# Altium integrated library Holtek Semiconductor 8-Bit OTP MCU.IntLib: 195 symbols (part 1 of 7)
Pins are listed as number, name and electrical type; pins without a type are passive.

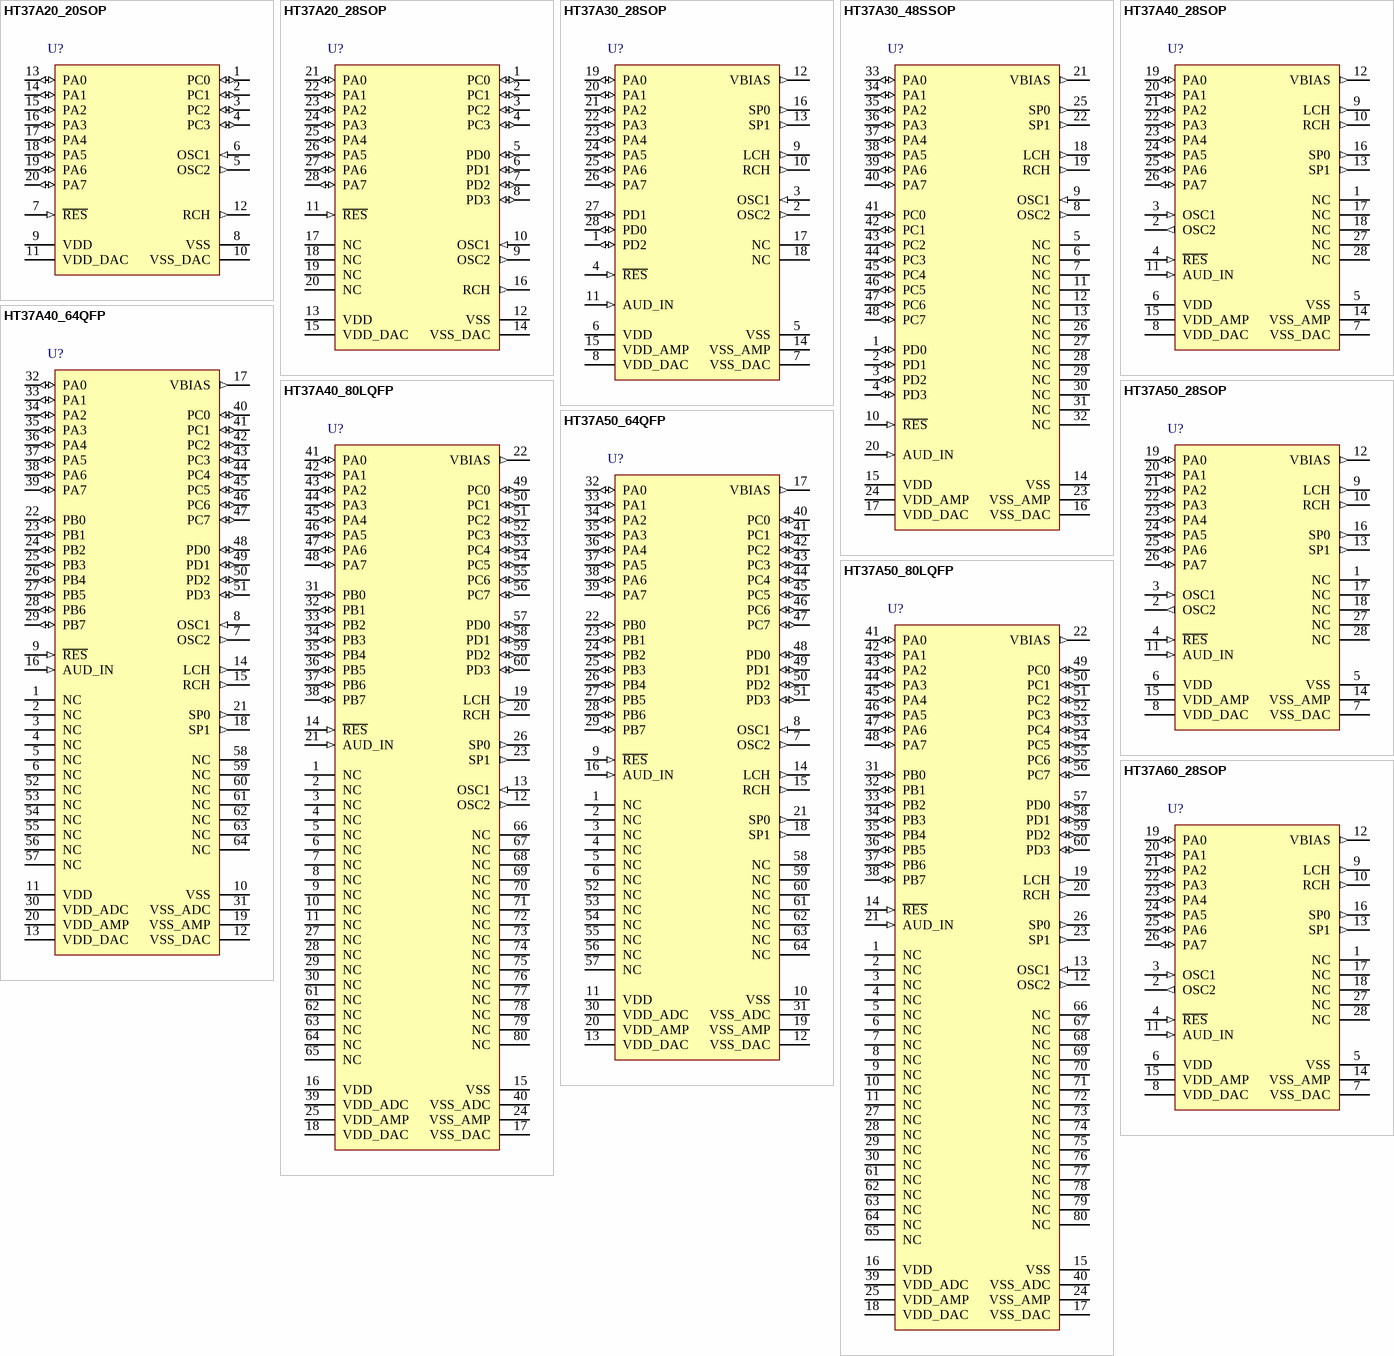
[diagram p0: symbols HT37A20_20SOP to HT37A60_28SOP]

## HT37A20_20SOP
designator U?
Voice & Music MCU, Enhanced Music MCU (8 Polyphony), 2.4V-5.5V, 32Kx16 Program Memory, 320x8 Data Memory, 16 I/O, 2 x 8-bit Timer, 1 x 16-bit Timer, 16-bitx1 D/A, 20-pin SOP; I/O: 16; DatasheetVersion: rev1.0, Feb-2009; PackageVersion: 25/05/2010; PackageReference: 20SOP; PackageDescription: 20-Pin Small Outline Package, 300mil Wide, 1.27 mm Pitch; Series: Enhanced Music MCU (8 Polyphony); Operating Voltage: 2.4V-5.5V; Program Memory: 32Kx16; Data Memory: 320x8; Code_JEDEC: MS-013; Code_IPC: SOIC127P1030-20; ComponentLink1Description: Manufacturer URL; ComponentLink1URL: http://www.holtek.com/; ComponentLink2Description: Datasheet; ComponentLink2URL: http://www.holtek.com/pdf/consumer/37axxv100.pdf; ComponentLink3Description: Package Specification; ComponentLink3URL: http://www.holtek.com/english/literature/package.pdf
footprint 20SOP_N (SOIC, 20-Leads, Body 12.8x7.1mm, Pitch 1.27mm, IPC Medium Density)
footprint 20SOP_L (SOIC, 20-Leads, Body 12.8x7.1mm, Pitch 1.27mm, IPC High Density)
footprint 20SOP_M (SOIC, 20-Leads, Body 12.8x7.1mm, Pitch 1.27mm, IPC Low Density)
pins: 1 PC0 (io), 2 PC1 (io), 3 PC2 (io), 4 PC3 (io), 5 OSC2 (out), 6 OSC1 (in), 7 ~{RES} (in), 8 VSS (power), 9 VDD (power), 10 VSS_DAC (power), 11 VDD_DAC (power), 12 RCH (out), 13 PA0 (io), 14 PA1 (io), 15 PA2 (io), 16 PA3 (io), 17 PA4 (io), 18 PA5 (io), 19 PA6 (io), 20 PA7 (io)

## HT37A20_28SOP
designator U?
Voice & Music MCU, Enhanced Music MCU (8 Polyphony), 2.4V-5.5V, 32Kx16 Program Memory, 320x8 Data Memory, 16 I/O, 2 x 8-bit Timer, 1 x 16-bit Timer, 16-bitx1 D/A, 28-pin SOP; I/O: 16; DatasheetVersion: rev1.0, Feb-2009; PackageVersion: 25/05/2010; PackageReference: 28SOP; PackageDescription: 28-Pin Small Outline Package, 300mil Wide, 1.27 mm Pitch; Series: Enhanced Music MCU (8 Polyphony); Operating Voltage: 2.4V-5.5V; Program Memory: 32Kx16; Data Memory: 320x8; Code_JEDEC: MS-013; ComponentLink1Description: Manufacturer URL; ComponentLink1URL: http://www.holtek.com/; ComponentLink2Description: Datasheet; ComponentLink2URL: http://www.holtek.com/pdf/consumer/37axxv100.pdf; ComponentLink3Description: Package Specification; ComponentLink3URL: http://www.holtek.com/english/literature/package.pdf
footprint 28SOP_N (SOIC, 28-Leads, Body 17.9x7.1mm, Pitch 1.27mm, IPC Medium Density)
footprint 28SOP_L (SOIC, 28-Leads, Body 17.9x7.1mm, Pitch 1.27mm, IPC High Density)
footprint 28SOP_M (SOIC, 28-Leads, Body 17.9x7.1mm, Pitch 1.27mm, IPC Low Density)
pins: 1 PC0 (io), 2 PC1 (io), 3 PC2 (io), 4 PC3 (io), 5 PD0 (io), 6 PD1 (io), 7 PD2 (io), 8 PD3 (io), 9 OSC2 (out), 10 OSC1 (in), 11 ~{RES} (in), 12 VSS (power), 13 VDD (power), 14 VSS_DAC (power), 15 VDD_DAC (power), 16 RCH (out), 17 NC, 18 NC, 19 NC, 20 NC, 21 PA0 (io), 22 PA1 (io), 23 PA2 (io), 24 PA3 (io), 25 PA4 (io), 26 PA5 (io), 27 PA6 (io), 28 PA7 (io)

## HT37A30_28SOP
designator U?
Voice & Music MCU, Enhanced Music MCU (8 Polyphony), 2.4V-5.5V, 64Kx16 Program Memory, 320x8 Data Memory, 20 I/O, 2 x 8-bit Timer, 1 x 16-bit Timer, 16-bitx2 D/A, 28-pin SOP; I/O: 20; DatasheetVersion: rev1.0, Feb-2009; PackageVersion: 25/05/2010; PackageReference: 28SOP; PackageDescription: 28-Pin Small Outline Package, 300mil Wide, 1.27 mm Pitch; Series: Enhanced Music MCU (8 Polyphony); Operating Voltage: 2.4V-5.5V; Program Memory: 64Kx16; Data Memory: 320x8; Code_JEDEC: MS-013; ComponentLink1Description: Manufacturer URL; ComponentLink1URL: http://www.holtek.com/; ComponentLink2Description: Datasheet; ComponentLink2URL: http://www.holtek.com/pdf/consumer/37axxv100.pdf; ComponentLink3Description: Package Specification; ComponentLink3URL: http://www.holtek.com/english/literature/package.pdf
footprint 28SOP_N (SOIC, 28-Leads, Body 17.9x7.1mm, Pitch 1.27mm, IPC Medium Density)
footprint 28SOP_L (SOIC, 28-Leads, Body 17.9x7.1mm, Pitch 1.27mm, IPC High Density)
footprint 28SOP_M (SOIC, 28-Leads, Body 17.9x7.1mm, Pitch 1.27mm, IPC Low Density)
pins: 1 PD2 (io), 2 OSC2 (out), 3 OSC1 (in), 4 ~{RES} (in), 5 VSS (power), 6 VDD (power), 7 VSS_DAC (power), 8 VDD_DAC (power), 9 LCH (out), 10 RCH (out), 11 AUD_IN (in), 12 VBIAS (out), 13 SP1 (out), 14 VSS_AMP (power), 15 VDD_AMP (power), 16 SP0 (out), 17 NC, 18 NC, 19 PA0 (io), 20 PA1 (io), 21 PA2 (io), 22 PA3 (io), 23 PA4 (io), 24 PA5 (io), 25 PA6 (io), 26 PA7 (io), 27 PD1 (io), 28 PD0 (io)

## HT37A30_48SSOP
designator U?
Voice & Music MCU, Enhanced Music MCU (8 Polyphony), 2.4V-5.5V, 64Kx16 Program Memory, 320x8 Data Memory, 20 I/O, 2 x 8-bit Timer, 1 x 16-bit Timer, 16-bitx2 D/A, 48-pin SSOP; I/O: 20; DatasheetVersion: rev1.0, Feb-2009; PackageVersion: 25/05/2010; PackageReference: 48SSOP; PackageDescription: 48-Pin Shrink Small Outline Package, 300mil Width, 0.64 mm Pitch; Series: Enhanced Music MCU (8 Polyphony); Operating Voltage: 2.4V-5.5V; Program Memory: 64Kx16; Data Memory: 320x8; Code_IPC: SOP635P1035-48; ComponentLink1Description: Manufacturer URL; ComponentLink1URL: http://www.holtek.com/; ComponentLink2Description: Datasheet; ComponentLink2URL: http://www.holtek.com/pdf/consumer/37axxv100.pdf; ComponentLink3Description: Package Specification; ComponentLink3URL: http://www.holtek.com/english/literature/package.pdf
footprint 48SSOP_N (SOP, 48-Leads, Body 15.9x7.5mm, Pitch 0.635mm, IPC Medium Density)
footprint 48SSOP_L (SOP, 48-Leads, Body 15.9x7.5mm, Pitch 0.635mm, IPC High Density)
footprint 48SSOP_M (SOP, 48-Leads, Body 15.9x7.5mm, Pitch 0.635mm, IPC Low Density)
pins: 1 PD0 (io), 2 PD1 (io), 3 PD2 (io), 4 PD3 (io), 5 NC, 6 NC, 7 NC, 8 OSC2 (out), 9 OSC1 (in), 10 ~{RES} (in), 11 NC, 12 NC, 13 NC, 14 VSS (power), 15 VDD (power), 16 VSS_DAC (power), 17 VDD_DAC (power), 18 LCH (out), 19 RCH (out), 20 AUD_IN (in), 21 VBIAS (out), 22 SP1 (out), 23 VSS_AMP (power), 24 VDD_AMP (power), 25 SP0 (out), 26 NC, 27 NC, 28 NC, 29 NC, 30 NC, 31 NC, 32 NC, 33 PA0 (io), 34 PA1 (io), 35 PA2 (io), 36 PA3 (io), 37 PA4 (io), 38 PA5 (io), 39 PA6 (io), 40 PA7 (io), 41 PC0 (io), 42 PC1 (io), 43 PC2 (io), 44 PC3 (io), 45 PC4 (io), 46 PC5 (io), 47 PC6 (io), 48 PC7 (io)

## HT37A40_28SOP
designator U?
Voice & Music MCU, Enhanced Music MCU (8 Polyphony), 2.4V-5.5V, 96Kx16 Program Memory, 320x8 Data Memory, 28 I/O, 2 x 8-bit Timer, 1 x 16-bit Timer, 16-bitx2 D/A, 28-pin SOP; I/O: 28; DatasheetVersion: rev1.0, Feb-2009; PackageVersion: 25/05/2010; PackageReference: 28SOP; PackageDescription: 28-Pin Small Outline Package, 300mil Wide, 1.27 mm Pitch; Series: Enhanced Music MCU (8 Polyphony); Operating Voltage: 2.4V-5.5V; Program Memory: 96Kx16; Data Memory: 320x8; Code_JEDEC: MS-013; ComponentLink1Description: Manufacturer URL; ComponentLink1URL: http://www.holtek.com/; ComponentLink2Description: Datasheet; ComponentLink2URL: http://www.holtek.com/pdf/consumer/37axxv100.pdf; ComponentLink3Description: Package Specification; ComponentLink3URL: http://www.holtek.com/english/literature/package.pdf
footprint 28SOP_N (SOIC, 28-Leads, Body 17.9x7.1mm, Pitch 1.27mm, IPC Medium Density)
footprint 28SOP_L (SOIC, 28-Leads, Body 17.9x7.1mm, Pitch 1.27mm, IPC High Density)
footprint 28SOP_M (SOIC, 28-Leads, Body 17.9x7.1mm, Pitch 1.27mm, IPC Low Density)
pins: 1 NC, 2 OSC2 (out), 3 OSC1 (in), 4 ~{RES} (in), 5 VSS (power), 6 VDD (power), 7 VSS_DAC (power), 8 VDD_DAC (power), 9 LCH (out), 10 RCH (out), 11 AUD_IN (in), 12 VBIAS (out), 13 SP1 (out), 14 VSS_AMP (power), 15 VDD_AMP (power), 16 SP0 (out), 17 NC, 18 NC, 19 PA0 (io), 20 PA1 (io), 21 PA2 (io), 22 PA3 (io), 23 PA4 (io), 24 PA5 (io), 25 PA6 (io), 26 PA7 (io), 27 NC, 28 NC

## HT37A40_64QFP
designator U?
Voice & Music MCU, Enhanced Music MCU (8 Polyphony), 2.4V-5.5V, 96Kx16 Program Memory, 320x8 Data Memory, 28 I/O, 2 x 8-bit Timer, 1 x 16-bit Timer, 16-bitx2 D/A, 64-pin QFP; I/O: 28; DatasheetVersion: rev1.0, Feb-2009; PackageVersion: 25/05/2010; PackageReference: 64QFP; PackageDescription: 64-Pin Quad Flat Pack, 20 x 14 mm Body, 1 mm Pitch; Series: Enhanced Music MCU (8 Polyphony); Operating Voltage: 2.4V-5.5V; Program Memory: 96Kx16; Data Memory: 320x8; ComponentLink1Description: Manufacturer URL; ComponentLink1URL: http://www.holtek.com/; ComponentLink2Description: Datasheet; ComponentLink2URL: http://www.holtek.com/pdf/consumer/37axxv100.pdf; ComponentLink3Description: Package Specification; ComponentLink3URL: http://www.holtek.com/english/literature/package.pdf
footprint 64QFP_N (QFP, 64-Leads, Body 20x14mm, Pitch 1mm, IPC Medium Density)
footprint 64QFP_L (QFP, 64-Leads, Body 20x14mm, Pitch 1mm, IPC High Density)
footprint 64QFP_M (QFP, 64-Leads, Body 20x14mm, Pitch 1mm, IPC Low Density)
pins: 1 NC, 2 NC, 3 NC, 4 NC, 5 NC, 6 NC, 7 OSC2 (out), 8 OSC1 (in), 9 ~{RES} (in), 10 VSS (power), 11 VDD (power), 12 VSS_DAC (power), 13 VDD_DAC (power), 14 LCH (out), 15 RCH (out), 16 AUD_IN (in), 17 VBIAS (out), 18 SP1 (out), 19 VSS_AMP (power), 20 VDD_AMP (power), 21 SP0 (out), 22 PB0 (io), 23 PB1 (io), 24 PB2 (io), 25 PB3 (io), 26 PB4 (io), 27 PB5 (io), 28 PB6 (io), 29 PB7 (io), 30 VDD_ADC (power), 31 VSS_ADC (power), 32 PA0 (io), 33 PA1 (io), 34 PA2 (io), 35 PA3 (io), 36 PA4 (io), 37 PA5 (io), 38 PA6 (io), 39 PA7 (io), 40 PC0 (io), 41 PC1 (io), 42 PC2 (io), 43 PC3 (io), 44 PC4 (io), 45 PC5 (io), 46 PC6 (io), 47 PC7 (io), 48 PD0 (io), 49 PD1 (io), 50 PD2 (io), 51 PD3 (io), 52 NC, 53 NC, 54 NC, 55 NC, 56 NC, 57 NC, 58 NC, 59 NC, 60 NC, 61 NC, 62 NC, 63 NC, 64 NC

## HT37A40_80LQFP
designator U?
Voice & Music MCU, Enhanced Music MCU (8 Polyphony), 2.4V-5.5V, 96Kx16 Program Memory, 320x8 Data Memory, 28 I/O, 2 x 8-bit Timer, 1 x 16-bit Timer, 16-bitx2 D/A, 80-pin LQFP; I/O: 28; DatasheetVersion: rev1.0, Feb-2009; PackageVersion: 25/05/2010; PackageReference: 80LQFP; PackageDescription: 80-Pin Low Profile Quad Flat Pack, 10 x 10 mm Body, 0.4 mm Pitch; Series: Enhanced Music MCU (8 Polyphony); Operating Voltage: 2.4V-5.5V; Program Memory: 96Kx16; Data Memory: 320x8; ComponentLink1Description: Manufacturer URL; ComponentLink1URL: http://www.holtek.com/; ComponentLink2Description: Datasheet; ComponentLink2URL: http://www.holtek.com/pdf/consumer/37axxv100.pdf; ComponentLink3Description: Package Specification; ComponentLink3URL: http://www.holtek.com/english/literature/package.pdf
footprint 80LQFP_N (Thin QFP, 80-Leads, Body 10x10mm, Pitch 0.4mm, IPC Medium Density)
footprint 80LQFP_L (Thin QFP, 80-Leads, Body 10x10mm, Pitch 0.4mm, IPC High Density)
footprint 80LQFP_M (Thin QFP, 80-Leads, Body 10x10mm, Pitch 0.4mm, IPC Low Density)
pins: 1 NC, 2 NC, 3 NC, 4 NC, 5 NC, 6 NC, 7 NC, 8 NC, 9 NC, 10 NC, 11 NC, 12 OSC2 (out), 13 OSC1 (in), 14 ~{RES} (in), 15 VSS (power), 16 VDD (power), 17 VSS_DAC (power), 18 VDD_DAC (power), 19 LCH (out), 20 RCH (out), 21 AUD_IN (in), 22 VBIAS (out), 23 SP1 (out), 24 VSS_AMP (power), 25 VDD_AMP (power), 26 SP0 (out), 27 NC, 28 NC, 29 NC, 30 NC, 31 PB0 (io), 32 PB1 (io), 33 PB2 (io), 34 PB3 (io), 35 PB4 (io), 36 PB5 (io), 37 PB6 (io), 38 PB7 (io), 39 VDD_ADC (power), 40 VSS_ADC (power), 41 PA0 (io), 42 PA1 (io), 43 PA2 (io), 44 PA3 (io), 45 PA4 (io), 46 PA5 (io), 47 PA6 (io), 48 PA7 (io), 49 PC0 (io), 50 PC1 (io), 51 PC2 (io), 52 PC3 (io), 53 PC4 (io), 54 PC5 (io), 55 PC6 (io), 56 PC7 (io), 57 PD0 (io), 58 PD1 (io), 59 PD2 (io), 60 PD3 (io), 61 NC, 62 NC, 63 NC, 64 NC, 65 NC, 66 NC, 67 NC, 68 NC, 69 NC, 70 NC, 71 NC, 72 NC, 73 NC, 74 NC, 75 NC, 76 NC, 77 NC, 78 NC, 79 NC, 80 NC

## HT37A50_28SOP
designator U?
Voice & Music MCU, Enhanced Music MCU (8 Polyphony), 2.4V-5.5V, 128Kx16 Program Memory, 320x8 Data Memory, 28 I/O, 2 x 8-bit Timer, 1 x 16-bit Timer, 16-bitx2 D/A, 28-pin SOP; I/O: 28; DatasheetVersion: rev1.0, Feb-2009; PackageVersion: 25/05/2010; PackageReference: 28SOP; PackageDescription: 28-Pin Small Outline Package, 300mil Wide, 1.27 mm Pitch; Series: Enhanced Music MCU (8 Polyphony); Operating Voltage: 2.4V-5.5V; Program Memory: 128Kx16; Data Memory: 320x8; Code_JEDEC: MS-013; ComponentLink1Description: Manufacturer URL; ComponentLink1URL: http://www.holtek.com/; ComponentLink2Description: Datasheet; ComponentLink2URL: http://www.holtek.com/pdf/consumer/37axxv100.pdf; ComponentLink3Description: Package Specification; ComponentLink3URL: http://www.holtek.com/english/literature/package.pdf
footprint 28SOP_N (SOIC, 28-Leads, Body 17.9x7.1mm, Pitch 1.27mm, IPC Medium Density)
footprint 28SOP_L (SOIC, 28-Leads, Body 17.9x7.1mm, Pitch 1.27mm, IPC High Density)
footprint 28SOP_M (SOIC, 28-Leads, Body 17.9x7.1mm, Pitch 1.27mm, IPC Low Density)
pins: 1 NC, 2 OSC2 (out), 3 OSC1 (in), 4 ~{RES} (in), 5 VSS (power), 6 VDD (power), 7 VSS_DAC (power), 8 VDD_DAC (power), 9 LCH (out), 10 RCH (out), 11 AUD_IN (in), 12 VBIAS (out), 13 SP1 (out), 14 VSS_AMP (power), 15 VDD_AMP (power), 16 SP0 (out), 17 NC, 18 NC, 19 PA0 (io), 20 PA1 (io), 21 PA2 (io), 22 PA3 (io), 23 PA4 (io), 24 PA5 (io), 25 PA6 (io), 26 PA7 (io), 27 NC, 28 NC

## HT37A50_64QFP
designator U?
Voice & Music MCU, Enhanced Music MCU (8 Polyphony), 2.4V-5.5V, 128Kx16 Program Memory, 320x8 Data Memory, 28 I/O, 2 x 8-bit Timer, 1 x 16-bit Timer, 16-bitx2 D/A, 64-pin QFP; I/O: 28; DatasheetVersion: rev1.0, Feb-2009; PackageVersion: 25/05/2010; PackageReference: 64QFP; PackageDescription: 64-Pin Quad Flat Pack, 20 x 14 mm Body, 1 mm Pitch; Series: Enhanced Music MCU (8 Polyphony); Operating Voltage: 2.4V-5.5V; Program Memory: 128Kx16; Data Memory: 320x8; ComponentLink1Description: Manufacturer URL; ComponentLink1URL: http://www.holtek.com/; ComponentLink2Description: Datasheet; ComponentLink2URL: http://www.holtek.com/pdf/consumer/37axxv100.pdf; ComponentLink3Description: Package Specification; ComponentLink3URL: http://www.holtek.com/english/literature/package.pdf
footprint 64QFP_N (QFP, 64-Leads, Body 20x14mm, Pitch 1mm, IPC Medium Density)
footprint 64QFP_L (QFP, 64-Leads, Body 20x14mm, Pitch 1mm, IPC High Density)
footprint 64QFP_M (QFP, 64-Leads, Body 20x14mm, Pitch 1mm, IPC Low Density)
pins: 1 NC, 2 NC, 3 NC, 4 NC, 5 NC, 6 NC, 7 OSC2 (out), 8 OSC1 (in), 9 ~{RES} (in), 10 VSS (power), 11 VDD (power), 12 VSS_DAC (power), 13 VDD_DAC (power), 14 LCH (out), 15 RCH (out), 16 AUD_IN (in), 17 VBIAS (out), 18 SP1 (out), 19 VSS_AMP (power), 20 VDD_AMP (power), 21 SP0 (out), 22 PB0 (io), 23 PB1 (io), 24 PB2 (io), 25 PB3 (io), 26 PB4 (io), 27 PB5 (io), 28 PB6 (io), 29 PB7 (io), 30 VDD_ADC (power), 31 VSS_ADC (power), 32 PA0 (io), 33 PA1 (io), 34 PA2 (io), 35 PA3 (io), 36 PA4 (io), 37 PA5 (io), 38 PA6 (io), 39 PA7 (io), 40 PC0 (io), 41 PC1 (io), 42 PC2 (io), 43 PC3 (io), 44 PC4 (io), 45 PC5 (io), 46 PC6 (io), 47 PC7 (io), 48 PD0 (io), 49 PD1 (io), 50 PD2 (io), 51 PD3 (io), 52 NC, 53 NC, 54 NC, 55 NC, 56 NC, 57 NC, 58 NC, 59 NC, 60 NC, 61 NC, 62 NC, 63 NC, 64 NC

## HT37A50_80LQFP
designator U?
Voice & Music MCU, Enhanced Music MCU (8 Polyphony), 2.4V-5.5V, 128Kx16 Program Memory, 320x8 Data Memory, 28 I/O, 2 x 8-bit Timer, 1 x 16-bit Timer, 16-bitx2 D/A, 80-pin LQFP; I/O: 28; DatasheetVersion: rev1.0, Feb-2009; PackageVersion: 25/05/2010; PackageReference: 80LQFP; PackageDescription: 80-Pin Low Profile Quad Flat Pack, 10 x 10 mm Body, 0.4 mm Pitch; Series: Enhanced Music MCU (8 Polyphony); Operating Voltage: 2.4V-5.5V; Program Memory: 128Kx16; Data Memory: 320x8; ComponentLink1Description: Manufacturer URL; ComponentLink1URL: http://www.holtek.com/; ComponentLink2Description: Datasheet; ComponentLink2URL: http://www.holtek.com/pdf/consumer/37axxv100.pdf; ComponentLink3Description: Package Specification; ComponentLink3URL: http://www.holtek.com/english/literature/package.pdf
footprint 80LQFP_N (Thin QFP, 80-Leads, Body 10x10mm, Pitch 0.4mm, IPC Medium Density)
footprint 80LQFP_L (Thin QFP, 80-Leads, Body 10x10mm, Pitch 0.4mm, IPC High Density)
footprint 80LQFP_M (Thin QFP, 80-Leads, Body 10x10mm, Pitch 0.4mm, IPC Low Density)
pins: 1 NC, 2 NC, 3 NC, 4 NC, 5 NC, 6 NC, 7 NC, 8 NC, 9 NC, 10 NC, 11 NC, 12 OSC2 (out), 13 OSC1 (in), 14 ~{RES} (in), 15 VSS (power), 16 VDD (power), 17 VSS_DAC (power), 18 VDD_DAC (power), 19 LCH (out), 20 RCH (out), 21 AUD_IN (in), 22 VBIAS (out), 23 SP1 (out), 24 VSS_AMP (power), 25 VDD_AMP (power), 26 SP0 (out), 27 NC, 28 NC, 29 NC, 30 NC, 31 PB0 (io), 32 PB1 (io), 33 PB2 (io), 34 PB3 (io), 35 PB4 (io), 36 PB5 (io), 37 PB6 (io), 38 PB7 (io), 39 VDD_ADC (power), 40 VSS_ADC (power), 41 PA0 (io), 42 PA1 (io), 43 PA2 (io), 44 PA3 (io), 45 PA4 (io), 46 PA5 (io), 47 PA6 (io), 48 PA7 (io), 49 PC0 (io), 50 PC1 (io), 51 PC2 (io), 52 PC3 (io), 53 PC4 (io), 54 PC5 (io), 55 PC6 (io), 56 PC7 (io), 57 PD0 (io), 58 PD1 (io), 59 PD2 (io), 60 PD3 (io), 61 NC, 62 NC, 63 NC, 64 NC, 65 NC, 66 NC, 67 NC, 68 NC, 69 NC, 70 NC, 71 NC, 72 NC, 73 NC, 74 NC, 75 NC, 76 NC, 77 NC, 78 NC, 79 NC, 80 NC

## HT37A60_28SOP
designator U?
Voice & Music MCU, Enhanced Music MCU (8 Polyphony), 2.4V-5.5V, 192Kx16 Program Memory, 320x8 Data Memory, 28 I/O, 2 x 8-bit Timer, 1 x 16-bit Timer, 16-bitx2 D/A, 28-pin SOP; I/O: 28; DatasheetVersion: rev1.0, Feb-2009; PackageVersion: 25/05/2010; PackageReference: 28SOP; PackageDescription: 28-Pin Small Outline Package, 300mil Wide, 1.27 mm Pitch; Series: Enhanced Music MCU (8 Polyphony); Operating Voltage: 2.4V-5.5V; Program Memory: 192Kx16; Data Memory: 320x8; Code_JEDEC: MS-013; ComponentLink1Description: Manufacturer URL; ComponentLink1URL: http://www.holtek.com/; ComponentLink2Description: Datasheet; ComponentLink2URL: http://www.holtek.com/pdf/consumer/37axxv100.pdf; ComponentLink3Description: Package Specification; ComponentLink3URL: http://www.holtek.com/english/literature/package.pdf
footprint 28SOP_N (SOIC, 28-Leads, Body 17.9x7.1mm, Pitch 1.27mm, IPC Medium Density)
footprint 28SOP_L (SOIC, 28-Leads, Body 17.9x7.1mm, Pitch 1.27mm, IPC High Density)
footprint 28SOP_M (SOIC, 28-Leads, Body 17.9x7.1mm, Pitch 1.27mm, IPC Low Density)
pins: 1 NC, 2 OSC2 (out), 3 OSC1 (in), 4 ~{RES} (in), 5 VSS (power), 6 VDD (power), 7 VSS_DAC (power), 8 VDD_DAC (power), 9 LCH (out), 10 RCH (out), 11 AUD_IN (in), 12 VBIAS (out), 13 SP1 (out), 14 VSS_AMP (power), 15 VDD_AMP (power), 16 SP0 (out), 17 NC, 18 NC, 19 PA0 (io), 20 PA1 (io), 21 PA2 (io), 22 PA3 (io), 23 PA4 (io), 24 PA5 (io), 25 PA6 (io), 26 PA7 (io), 27 NC, 28 NC

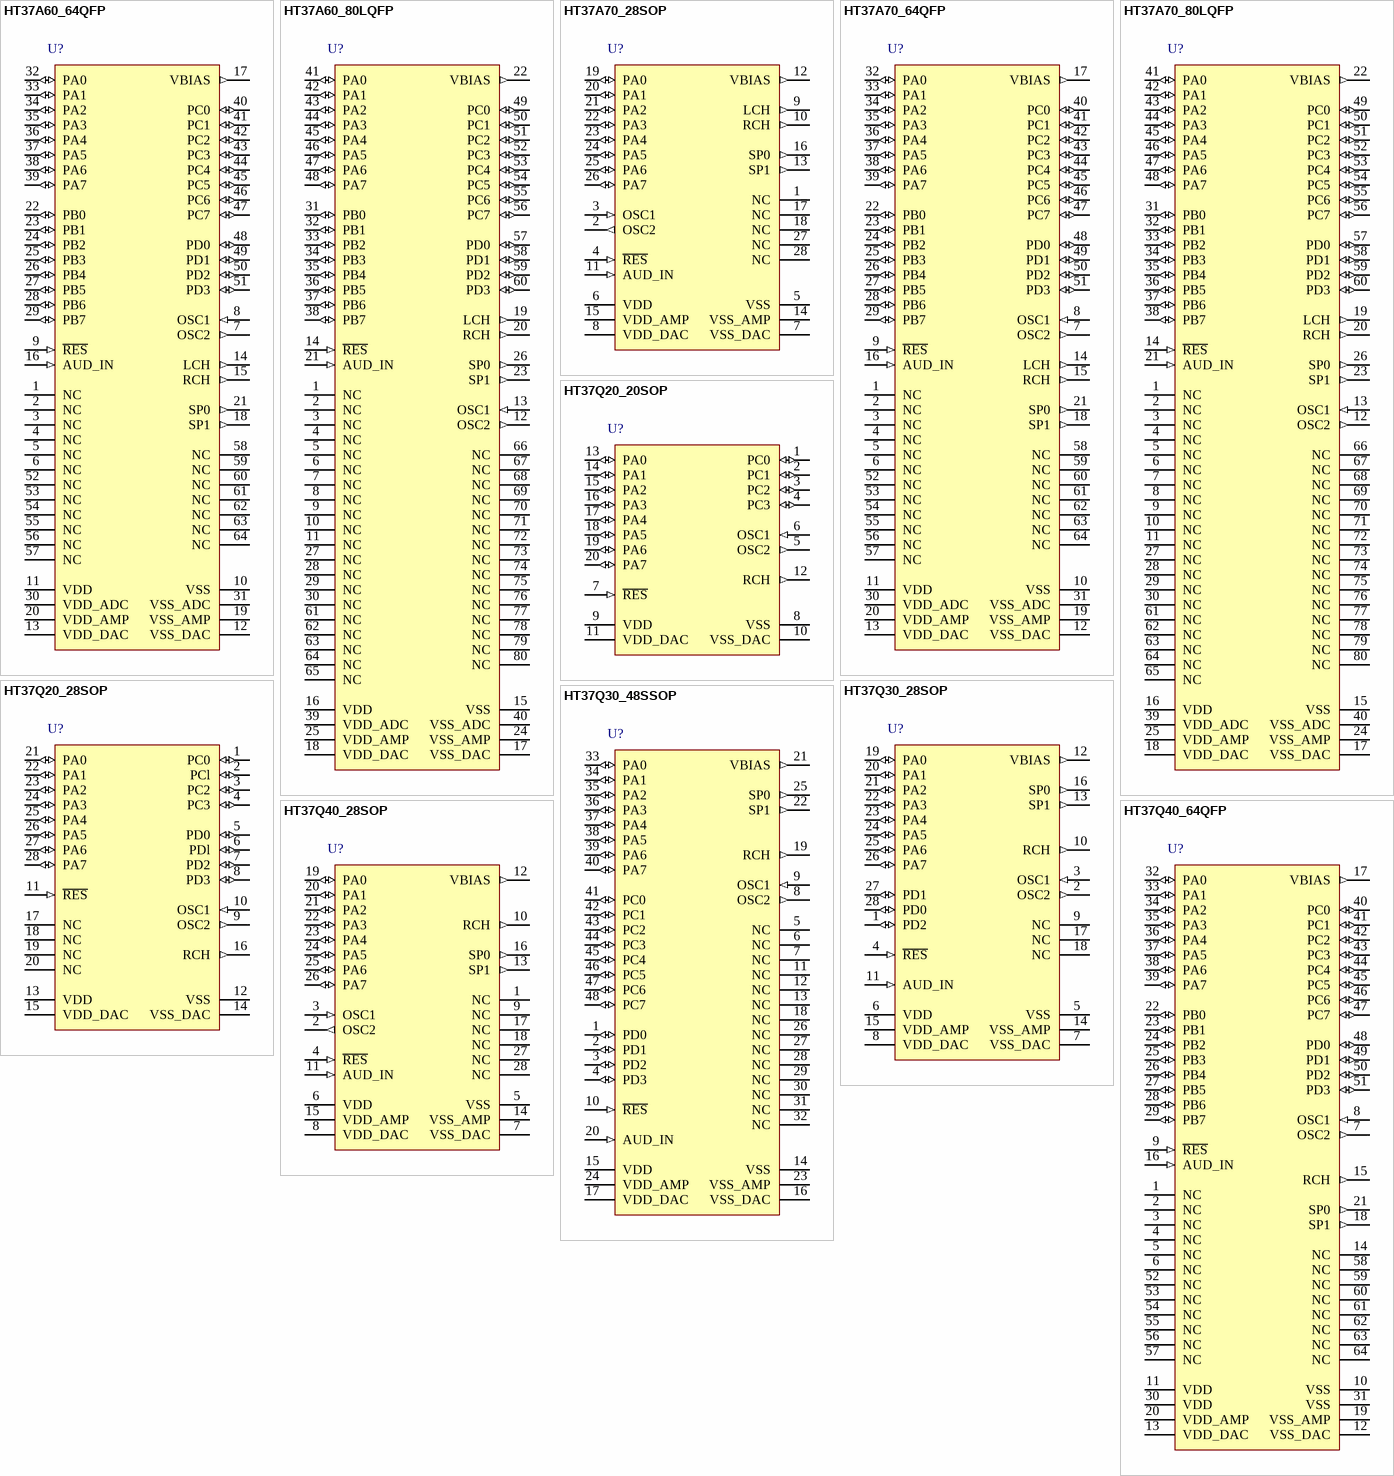
[diagram p1: symbols HT37A60_64QFP to HT37Q40_64QFP]

## HT37A60_64QFP
designator U?
Voice & Music MCU, Enhanced Music MCU (8 Polyphony), 2.4V-5.5V, 192Kx16 Program Memory, 320x8 Data Memory, 28 I/O, 2 x 8-bit Timer, 1 x 16-bit Timer, 16-bitx2 D/A, 64-pin QFP; I/O: 28; DatasheetVersion: rev1.0, Feb-2009; PackageVersion: 25/05/2010; PackageReference: 64QFP; PackageDescription: 64-Pin Quad Flat Pack, 20 x 14 mm Body, 1 mm Pitch; Series: Enhanced Music MCU (8 Polyphony); Operating Voltage: 2.4V-5.5V; Program Memory: 192Kx16; Data Memory: 320x8; ComponentLink1Description: Manufacturer URL; ComponentLink1URL: http://www.holtek.com/; ComponentLink2Description: Datasheet; ComponentLink2URL: http://www.holtek.com/pdf/consumer/37axxv100.pdf; ComponentLink3Description: Package Specification; ComponentLink3URL: http://www.holtek.com/english/literature/package.pdf
footprint 64QFP_N (QFP, 64-Leads, Body 20x14mm, Pitch 1mm, IPC Medium Density)
footprint 64QFP_L (QFP, 64-Leads, Body 20x14mm, Pitch 1mm, IPC High Density)
footprint 64QFP_M (QFP, 64-Leads, Body 20x14mm, Pitch 1mm, IPC Low Density)
pins: 1 NC, 2 NC, 3 NC, 4 NC, 5 NC, 6 NC, 7 OSC2 (out), 8 OSC1 (in), 9 ~{RES} (in), 10 VSS (power), 11 VDD (power), 12 VSS_DAC (power), 13 VDD_DAC (power), 14 LCH (out), 15 RCH (out), 16 AUD_IN (in), 17 VBIAS (out), 18 SP1 (out), 19 VSS_AMP (power), 20 VDD_AMP (power), 21 SP0 (out), 22 PB0 (io), 23 PB1 (io), 24 PB2 (io), 25 PB3 (io), 26 PB4 (io), 27 PB5 (io), 28 PB6 (io), 29 PB7 (io), 30 VDD_ADC (power), 31 VSS_ADC (power), 32 PA0 (io), 33 PA1 (io), 34 PA2 (io), 35 PA3 (io), 36 PA4 (io), 37 PA5 (io), 38 PA6 (io), 39 PA7 (io), 40 PC0 (io), 41 PC1 (io), 42 PC2 (io), 43 PC3 (io), 44 PC4 (io), 45 PC5 (io), 46 PC6 (io), 47 PC7 (io), 48 PD0 (io), 49 PD1 (io), 50 PD2 (io), 51 PD3 (io), 52 NC, 53 NC, 54 NC, 55 NC, 56 NC, 57 NC, 58 NC, 59 NC, 60 NC, 61 NC, 62 NC, 63 NC, 64 NC

## HT37A60_80LQFP
designator U?
Voice & Music MCU, Enhanced Music MCU (8 Polyphony), 2.4V-5.5V, 192Kx16 Program Memory, 320x8 Data Memory, 28 I/O, 2 x 8-bit Timer, 1 x 16-bit Timer, 16-bitx2 D/A, 80-pin LQFP; I/O: 28; DatasheetVersion: rev1.0, Feb-2009; PackageVersion: 25/05/2010; PackageReference: 80LQFP; PackageDescription: 80-Pin Low Profile Quad Flat Pack, 10 x 10 mm Body, 0.4 mm Pitch; Series: Enhanced Music MCU (8 Polyphony); Operating Voltage: 2.4V-5.5V; Program Memory: 192Kx16; Data Memory: 320x8; ComponentLink1Description: Manufacturer URL; ComponentLink1URL: http://www.holtek.com/; ComponentLink2Description: Datasheet; ComponentLink2URL: http://www.holtek.com/pdf/consumer/37axxv100.pdf; ComponentLink3Description: Package Specification; ComponentLink3URL: http://www.holtek.com/english/literature/package.pdf
footprint 80LQFP_N (Thin QFP, 80-Leads, Body 10x10mm, Pitch 0.4mm, IPC Medium Density)
footprint 80LQFP_L (Thin QFP, 80-Leads, Body 10x10mm, Pitch 0.4mm, IPC High Density)
footprint 80LQFP_M (Thin QFP, 80-Leads, Body 10x10mm, Pitch 0.4mm, IPC Low Density)
pins: 1 NC, 2 NC, 3 NC, 4 NC, 5 NC, 6 NC, 7 NC, 8 NC, 9 NC, 10 NC, 11 NC, 12 OSC2 (out), 13 OSC1 (in), 14 ~{RES} (in), 15 VSS (power), 16 VDD (power), 17 VSS_DAC (power), 18 VDD_DAC (power), 19 LCH (out), 20 RCH (out), 21 AUD_IN (in), 22 VBIAS (out), 23 SP1 (out), 24 VSS_AMP (power), 25 VDD_AMP (power), 26 SP0 (out), 27 NC, 28 NC, 29 NC, 30 NC, 31 PB0 (io), 32 PB1 (io), 33 PB2 (io), 34 PB3 (io), 35 PB4 (io), 36 PB5 (io), 37 PB6 (io), 38 PB7 (io), 39 VDD_ADC (power), 40 VSS_ADC (power), 41 PA0 (io), 42 PA1 (io), 43 PA2 (io), 44 PA3 (io), 45 PA4 (io), 46 PA5 (io), 47 PA6 (io), 48 PA7 (io), 49 PC0 (io), 50 PC1 (io), 51 PC2 (io), 52 PC3 (io), 53 PC4 (io), 54 PC5 (io), 55 PC6 (io), 56 PC7 (io), 57 PD0 (io), 58 PD1 (io), 59 PD2 (io), 60 PD3 (io), 61 NC, 62 NC, 63 NC, 64 NC, 65 NC, 66 NC, 67 NC, 68 NC, 69 NC, 70 NC, 71 NC, 72 NC, 73 NC, 74 NC, 75 NC, 76 NC, 77 NC, 78 NC, 79 NC, 80 NC

## HT37A70_28SOP
designator U?
Voice & Music MCU, Enhanced Music MCU (8 Polyphony), 2.4V-5.5V, 256Kx16 Program Memory, 320x8 Data Memory, 28 I/O, 2 x 8-bit Timer, 1 x 16-bit Timer, 16-bitx2 D/A, 28-pin SOP; I/O: 28; DatasheetVersion: rev1.0, Feb-2009; PackageVersion: 25/05/2010; PackageReference: 28SOP; PackageDescription: 28-Pin Small Outline Package, 300mil Wide, 1.27 mm Pitch; Series: Enhanced Music MCU (8 Polyphony); Operating Voltage: 2.4V-5.5V; Program Memory: 256Kx16; Data Memory: 320x8; Code_JEDEC: MS-013; ComponentLink1Description: Manufacturer URL; ComponentLink1URL: http://www.holtek.com/; ComponentLink2Description: Datasheet; ComponentLink2URL: http://www.holtek.com/pdf/consumer/37axxv100.pdf; ComponentLink3Description: Package Specification; ComponentLink3URL: http://www.holtek.com/english/literature/package.pdf
footprint 28SOP_N (SOIC, 28-Leads, Body 17.9x7.1mm, Pitch 1.27mm, IPC Medium Density)
footprint 28SOP_L (SOIC, 28-Leads, Body 17.9x7.1mm, Pitch 1.27mm, IPC High Density)
footprint 28SOP_M (SOIC, 28-Leads, Body 17.9x7.1mm, Pitch 1.27mm, IPC Low Density)
pins: 1 NC, 2 OSC2 (out), 3 OSC1 (in), 4 ~{RES} (in), 5 VSS (power), 6 VDD (power), 7 VSS_DAC (power), 8 VDD_DAC (power), 9 LCH (out), 10 RCH (out), 11 AUD_IN (in), 12 VBIAS (out), 13 SP1 (out), 14 VSS_AMP (power), 15 VDD_AMP (power), 16 SP0 (out), 17 NC, 18 NC, 19 PA0 (io), 20 PA1 (io), 21 PA2 (io), 22 PA3 (io), 23 PA4 (io), 24 PA5 (io), 25 PA6 (io), 26 PA7 (io), 27 NC, 28 NC

## HT37A70_64QFP
designator U?
Voice & Music MCU, Enhanced Music MCU (8 Polyphony), 2.4V-5.5V, 256Kx16 Program Memory, 320x8 Data Memory, 28 I/O, 2 x 8-bit Timer, 1 x 16-bit Timer, 16-bitx2 D/A, 64-pin QFP; I/O: 28; DatasheetVersion: rev1.0, Feb-2009; PackageVersion: 25/05/2010; PackageReference: 64QFP; PackageDescription: 64-Pin Quad Flat Pack, 20 x 14 mm Body, 1 mm Pitch; Series: Enhanced Music MCU (8 Polyphony); Operating Voltage: 2.4V-5.5V; Program Memory: 256Kx16; Data Memory: 320x8; ComponentLink1Description: Manufacturer URL; ComponentLink1URL: http://www.holtek.com/; ComponentLink2Description: Datasheet; ComponentLink2URL: http://www.holtek.com/pdf/consumer/37axxv100.pdf; ComponentLink3Description: Package Specification; ComponentLink3URL: http://www.holtek.com/english/literature/package.pdf
footprint 64QFP_N (QFP, 64-Leads, Body 20x14mm, Pitch 1mm, IPC Medium Density)
footprint 64QFP_L (QFP, 64-Leads, Body 20x14mm, Pitch 1mm, IPC High Density)
footprint 64QFP_M (QFP, 64-Leads, Body 20x14mm, Pitch 1mm, IPC Low Density)
pins: 1 NC, 2 NC, 3 NC, 4 NC, 5 NC, 6 NC, 7 OSC2 (out), 8 OSC1 (in), 9 ~{RES} (in), 10 VSS (power), 11 VDD (power), 12 VSS_DAC (power), 13 VDD_DAC (power), 14 LCH (out), 15 RCH (out), 16 AUD_IN (in), 17 VBIAS (out), 18 SP1 (out), 19 VSS_AMP (power), 20 VDD_AMP (power), 21 SP0 (out), 22 PB0 (io), 23 PB1 (io), 24 PB2 (io), 25 PB3 (io), 26 PB4 (io), 27 PB5 (io), 28 PB6 (io), 29 PB7 (io), 30 VDD_ADC (power), 31 VSS_ADC (power), 32 PA0 (io), 33 PA1 (io), 34 PA2 (io), 35 PA3 (io), 36 PA4 (io), 37 PA5 (io), 38 PA6 (io), 39 PA7 (io), 40 PC0 (io), 41 PC1 (io), 42 PC2 (io), 43 PC3 (io), 44 PC4 (io), 45 PC5 (io), 46 PC6 (io), 47 PC7 (io), 48 PD0 (io), 49 PD1 (io), 50 PD2 (io), 51 PD3 (io), 52 NC, 53 NC, 54 NC, 55 NC, 56 NC, 57 NC, 58 NC, 59 NC, 60 NC, 61 NC, 62 NC, 63 NC, 64 NC

## HT37A70_80LQFP
designator U?
Voice & Music MCU, Enhanced Music MCU (8 Polyphony), 2.4V-5.5V, 256Kx16 Program Memory, 320x8 Data Memory, 28 I/O, 2 x 8-bit Timer, 1 x 16-bit Timer, 16-bitx2 D/A, 80-pin LQFP; I/O: 28; DatasheetVersion: rev1.0, Feb-2009; PackageVersion: 25/05/2010; PackageReference: 80LQFP; PackageDescription: 80-Pin Low Profile Quad Flat Pack, 10 x 10 mm Body, 0.4 mm Pitch; Series: Enhanced Music MCU (8 Polyphony); Operating Voltage: 2.4V-5.5V; Program Memory: 256Kx16; Data Memory: 320x8; ComponentLink1Description: Manufacturer URL; ComponentLink1URL: http://www.holtek.com/; ComponentLink2Description: Datasheet; ComponentLink2URL: http://www.holtek.com/pdf/consumer/37axxv100.pdf; ComponentLink3Description: Package Specification; ComponentLink3URL: http://www.holtek.com/english/literature/package.pdf
footprint 80LQFP_N (Thin QFP, 80-Leads, Body 10x10mm, Pitch 0.4mm, IPC Medium Density)
footprint 80LQFP_L (Thin QFP, 80-Leads, Body 10x10mm, Pitch 0.4mm, IPC High Density)
footprint 80LQFP_M (Thin QFP, 80-Leads, Body 10x10mm, Pitch 0.4mm, IPC Low Density)
pins: 1 NC, 2 NC, 3 NC, 4 NC, 5 NC, 6 NC, 7 NC, 8 NC, 9 NC, 10 NC, 11 NC, 12 OSC2 (out), 13 OSC1 (in), 14 ~{RES} (in), 15 VSS (power), 16 VDD (power), 17 VSS_DAC (power), 18 VDD_DAC (power), 19 LCH (out), 20 RCH (out), 21 AUD_IN (in), 22 VBIAS (out), 23 SP1 (out), 24 VSS_AMP (power), 25 VDD_AMP (power), 26 SP0 (out), 27 NC, 28 NC, 29 NC, 30 NC, 31 PB0 (io), 32 PB1 (io), 33 PB2 (io), 34 PB3 (io), 35 PB4 (io), 36 PB5 (io), 37 PB6 (io), 38 PB7 (io), 39 VDD_ADC (power), 40 VSS_ADC (power), 41 PA0 (io), 42 PA1 (io), 43 PA2 (io), 44 PA3 (io), 45 PA4 (io), 46 PA5 (io), 47 PA6 (io), 48 PA7 (io), 49 PC0 (io), 50 PC1 (io), 51 PC2 (io), 52 PC3 (io), 53 PC4 (io), 54 PC5 (io), 55 PC6 (io), 56 PC7 (io), 57 PD0 (io), 58 PD1 (io), 59 PD2 (io), 60 PD3 (io), 61 NC, 62 NC, 63 NC, 64 NC, 65 NC, 66 NC, 67 NC, 68 NC, 69 NC, 70 NC, 71 NC, 72 NC, 73 NC, 74 NC, 75 NC, 76 NC, 77 NC, 78 NC, 79 NC, 80 NC

## HT37Q20_20SOP
designator U?
Voice & Music MCU, Enhanced Music MCU (4 Polyphony), 2.4V-5.5V, 2Kx15 Program Memory, 80x8 Data Memory, 12 I/O, 2 x 8-bit Timer, 1 x 16-bit Timer, 16-bitx1 D/A, 20-pin SOP; I/O: 12; DatasheetVersion: rev1.0, Feb-2009; PackageVersion: 25/05/2010; PackageReference: 20SOP; PackageDescription: 20-Pin Small Outline Package, 300mil Wide, 1.27 mm Pitch; Series: Enhanced Music MCU (4 Polyphony); Operating Voltage: 2.4V-5.5V; Program Memory: 2Kx15; Data Memory: 80x8; Code_JEDEC: MS-013; Code_IPC: SOIC127P1030-20; ComponentLink1Description: Manufacturer URL; ComponentLink1URL: http://www.holtek.com/; ComponentLink2Description: Datasheet; ComponentLink2URL: http://www.holtek.com.cn/pdf/consumer/37qxxv100.pdf; ComponentLink3Description: Package Specification; ComponentLink3URL: http://www.holtek.com/english/literature/package.pdf
footprint 20SOP_N (SOIC, 20-Leads, Body 12.8x7.1mm, Pitch 1.27mm, IPC Medium Density)
footprint 20SOP_L (SOIC, 20-Leads, Body 12.8x7.1mm, Pitch 1.27mm, IPC High Density)
footprint 20SOP_M (SOIC, 20-Leads, Body 12.8x7.1mm, Pitch 1.27mm, IPC Low Density)
pins: 1 PC0 (io), 2 PC1 (io), 3 PC2 (io), 4 PC3 (io), 5 OSC2 (out), 6 OSC1 (in), 7 ~{RES} (in), 8 VSS (power), 9 VDD (power), 10 VSS_DAC (power), 11 VDD_DAC (power), 12 RCH (out), 13 PA0 (io), 14 PA1 (io), 15 PA2 (io), 16 PA3 (io), 17 PA4 (io), 18 PA5 (io), 19 PA6 (io), 20 PA7 (io)

## HT37Q20_28SOP
designator U?
Voice & Music MCU, Enhanced Music MCU (4 Polyphony), 2.4V-5.5V, 2Kx15 Program Memory, 80x8 Data Memory, 12 I/O, 2 x 8-bit Timer, 1 x 16-bit Timer, 16-bitx1 D/A, 28-pin SOP; I/O: 12; DatasheetVersion: rev1.0, Feb-2009; PackageVersion: 25/05/2010; PackageReference: 28SOP; PackageDescription: 28-Pin Small Outline Package, 300mil Wide, 1.27 mm Pitch; Series: Enhanced Music MCU (4 Polyphony); Operating Voltage: 2.4V-5.5V; Program Memory: 2Kx15; Data Memory: 80x8; Code_JEDEC: MS-013; ComponentLink1Description: Manufacturer URL; ComponentLink1URL: http://www.holtek.com/; ComponentLink2Description: Datasheet; ComponentLink2URL: http://www.holtek.com.cn/pdf/consumer/37qxxv100.pdf; ComponentLink3Description: Package Specification; ComponentLink3URL: http://www.holtek.com/english/literature/package.pdf
footprint 28SOP_N (SOIC, 28-Leads, Body 17.9x7.1mm, Pitch 1.27mm, IPC Medium Density)
footprint 28SOP_L (SOIC, 28-Leads, Body 17.9x7.1mm, Pitch 1.27mm, IPC High Density)
footprint 28SOP_M (SOIC, 28-Leads, Body 17.9x7.1mm, Pitch 1.27mm, IPC Low Density)
pins: 1 PC0 (io), 2 PCl (io), 3 PC2 (io), 4 PC3 (io), 5 PD0 (io), 6 PDl (io), 7 PD2 (io), 8 PD3 (io), 9 OSC2 (out), 10 OSC1 (in), 11 ~{RES} (in), 12 VSS (power), 13 VDD (power), 14 VSS_DAC (power), 15 VDD_DAC (power), 16 RCH (out), 17 NC, 18 NC, 19 NC, 20 NC, 21 PA0 (io), 22 PA1 (io), 23 PA2 (io), 24 PA3 (io), 25 PA4 (io), 26 PA5 (io), 27 PA6 (io), 28 PA7 (io)

## HT37Q30_28SOP
designator U?
Voice & Music MCU, Enhanced Music MCU (4 Polyphony), 2.4V-5.5V, 2Kx15 Program Memory, 80x8 Data Memory, 12 I/O, 2 x 8-bit Timer, 1 x 16-bit Timer, 16-bitx1 D/A, 28-pin SOP; I/O: 12; DatasheetVersion: rev1.0, Feb-2009; PackageVersion: 25/05/2010; PackageReference: 28SOP; PackageDescription: 28-Pin Small Outline Package, 300mil Wide, 1.27 mm Pitch; Series: Enhanced Music MCU (4 Polyphony); Operating Voltage: 2.4V-5.5V; Program Memory: 2Kx15; Data Memory: 80x8; Code_JEDEC: MS-013; ComponentLink1Description: Manufacturer URL; ComponentLink1URL: http://www.holtek.com/; ComponentLink2Description: Datasheet; ComponentLink2URL: http://www.holtek.com.cn/pdf/consumer/37qxxv100.pdf; ComponentLink3Description: Package Specification; ComponentLink3URL: http://www.holtek.com/english/literature/package.pdf
footprint 28SOP_N (SOIC, 28-Leads, Body 17.9x7.1mm, Pitch 1.27mm, IPC Medium Density)
footprint 28SOP_L (SOIC, 28-Leads, Body 17.9x7.1mm, Pitch 1.27mm, IPC High Density)
footprint 28SOP_M (SOIC, 28-Leads, Body 17.9x7.1mm, Pitch 1.27mm, IPC Low Density)
pins: 1 PD2 (io), 2 OSC2 (out), 3 OSC1 (in), 4 ~{RES} (in), 5 VSS (power), 6 VDD (power), 7 VSS_DAC (power), 8 VDD_DAC (power), 9 NC, 10 RCH (out), 11 AUD_IN (in), 12 VBIAS (out), 13 SP1 (out), 14 VSS_AMP (power), 15 VDD_AMP (power), 16 SP0 (out), 17 NC, 18 NC, 19 PA0 (io), 20 PA1 (io), 21 PA2 (io), 22 PA3 (io), 23 PA4 (io), 24 PA5 (io), 25 PA6 (io), 26 PA7 (io), 27 PD1 (io), 28 PD0 (io)

## HT37Q30_48SSOP
designator U?
Voice & Music MCU, Enhanced Music MCU (4 Polyphony), 2.4V-5.5V, 2Kx15 Program Memory, 80x8 Data Memory, 12 I/O, 2 x 8-bit Timer, 1 x 16-bit Timer, 16-bitx1 D/A, 48-pin SSOP; I/O: 12; DatasheetVersion: rev1.0, Feb-2009; PackageVersion: 25/05/2010; PackageReference: 48SSOP; PackageDescription: 48-Pin Shrink Small Outline Package, 300mil Width, 0.64 mm Pitch; Series: Enhanced Music MCU (4 Polyphony); Operating Voltage: 2.4V-5.5V; Program Memory: 2Kx15; Data Memory: 80x8; Code_IPC: SOP635P1035-48; ComponentLink1Description: Manufacturer URL; ComponentLink1URL: http://www.holtek.com/; ComponentLink2Description: Datasheet; ComponentLink2URL: http://www.holtek.com.cn/pdf/consumer/37qxxv100.pdf; ComponentLink3Description: Package Specification; ComponentLink3URL: http://www.holtek.com/english/literature/package.pdf
footprint 48SSOP_N (SOP, 48-Leads, Body 15.9x7.5mm, Pitch 0.635mm, IPC Medium Density)
footprint 48SSOP_L (SOP, 48-Leads, Body 15.9x7.5mm, Pitch 0.635mm, IPC High Density)
footprint 48SSOP_M (SOP, 48-Leads, Body 15.9x7.5mm, Pitch 0.635mm, IPC Low Density)
pins: 1 PD0 (io), 2 PD1 (io), 3 PD2 (io), 4 PD3 (io), 5 NC, 6 NC, 7 NC, 8 OSC2 (out), 9 OSC1 (in), 10 ~{RES} (in), 11 NC, 12 NC, 13 NC, 14 VSS (power), 15 VDD (power), 16 VSS_DAC (power), 17 VDD_DAC (power), 18 NC, 19 RCH (out), 20 AUD_IN (in), 21 VBIAS (out), 22 SP1 (out), 23 VSS_AMP (power), 24 VDD_AMP (power), 25 SP0 (out), 26 NC, 27 NC, 28 NC, 29 NC, 30 NC, 31 NC, 32 NC, 33 PA0 (io), 34 PA1 (io), 35 PA2 (io), 36 PA3 (io), 37 PA4 (io), 38 PA5 (io), 39 PA6 (io), 40 PA7 (io), 41 PC0 (io), 42 PC1 (io), 43 PC2 (io), 44 PC3 (io), 45 PC4 (io), 46 PC5 (io), 47 PC6 (io), 48 PC7 (io)

## HT37Q40_28SOP
designator U?
Voice & Music MCU, Enhanced Music MCU (4 Polyphony), 2.4V-5.5V, 2Kx15 Program Memory, 80x8 Data Memory, 12 I/O, 2 x 8-bit Timer, 1 x 16-bit Timer, 16-bitx1 D/A, 28-pin SOP; I/O: 12; DatasheetVersion: rev1.0, Feb-2009; PackageVersion: 25/05/2010; PackageReference: 28SOP; PackageDescription: 28-Pin Small Outline Package, 300mil Wide, 1.27 mm Pitch; Series: Enhanced Music MCU (4 Polyphony); Operating Voltage: 2.4V-5.5V; Program Memory: 2Kx15; Data Memory: 80x8; Code_JEDEC: MS-013; ComponentLink1Description: Manufacturer URL; ComponentLink1URL: http://www.holtek.com/; ComponentLink2Description: Datasheet; ComponentLink2URL: http://www.holtek.com.cn/pdf/consumer/37qxxv100.pdf; ComponentLink3Description: Package Specification; ComponentLink3URL: http://www.holtek.com/english/literature/package.pdf
footprint 28SOP_N (SOIC, 28-Leads, Body 17.9x7.1mm, Pitch 1.27mm, IPC Medium Density)
footprint 28SOP_L (SOIC, 28-Leads, Body 17.9x7.1mm, Pitch 1.27mm, IPC High Density)
footprint 28SOP_M (SOIC, 28-Leads, Body 17.9x7.1mm, Pitch 1.27mm, IPC Low Density)
pins: 1 NC, 2 OSC2 (out), 3 OSC1 (in), 4 ~{RES} (in), 5 VSS (power), 6 VDD (power), 7 VSS_DAC (power), 8 VDD_DAC (power), 9 NC, 10 RCH (out), 11 AUD_IN (in), 12 VBIAS (out), 13 SP1 (out), 14 VSS_AMP (power), 15 VDD_AMP (power), 16 SP0 (out), 17 NC, 18 NC, 19 PA0 (io), 20 PA1 (io), 21 PA2 (io), 22 PA3 (io), 23 PA4 (io), 24 PA5 (io), 25 PA6 (io), 26 PA7 (io), 27 NC, 28 NC

## HT37Q40_64QFP
designator U?
Voice & Music MCU, Enhanced Music MCU (4 Polyphony), 2.4V-5.5V, 2Kx15 Program Memory, 80x8 Data Memory, 12 I/O, 2 x 8-bit Timer, 1 x 16-bit Timer, 16-bitx1 D/A, 64-pin QFP; I/O: 12; DatasheetVersion: rev1.0, Feb-2009; PackageVersion: 25/05/2010; PackageReference: 64QFP; PackageDescription: 64-Pin Quad Flat Pack, 20 x 14 mm Body, 1 mm Pitch; Series: Enhanced Music MCU (4 Polyphony); Operating Voltage: 2.4V-5.5V; Program Memory: 2Kx15; Data Memory: 80x8; ComponentLink1Description: Manufacturer URL; ComponentLink1URL: http://www.holtek.com/; ComponentLink2Description: Datasheet; ComponentLink2URL: http://www.holtek.com.cn/pdf/consumer/37qxxv100.pdf; ComponentLink3Description: Package Specification; ComponentLink3URL: http://www.holtek.com/english/literature/package.pdf
footprint 64QFP_N (QFP, 64-Leads, Body 20x14mm, Pitch 1mm, IPC Medium Density)
footprint 64QFP_L (QFP, 64-Leads, Body 20x14mm, Pitch 1mm, IPC High Density)
footprint 64QFP_M (QFP, 64-Leads, Body 20x14mm, Pitch 1mm, IPC Low Density)
pins: 1 NC, 2 NC, 3 NC, 4 NC, 5 NC, 6 NC, 7 OSC2 (out), 8 OSC1 (in), 9 ~{RES} (in), 10 VSS (power), 11 VDD (power), 12 VSS_DAC (power), 13 VDD_DAC (power), 14 NC, 15 RCH (out), 16 AUD_IN (in), 17 VBIAS (out), 18 SP1 (out), 19 VSS_AMP (power), 20 VDD_AMP (power), 21 SP0 (out), 22 PB0 (io), 23 PB1 (io), 24 PB2 (io), 25 PB3 (io), 26 PB4 (io), 27 PB5 (io), 28 PB6 (io), 29 PB7 (io), 30 VDD (power), 31 VSS (power), 32 PA0 (io), 33 PA1 (io), 34 PA2 (io), 35 PA3 (io), 36 PA4 (io), 37 PA5 (io), 38 PA6 (io), 39 PA7 (io), 40 PC0 (io), 41 PC1 (io), 42 PC2 (io), 43 PC3 (io), 44 PC4 (io), 45 PC5 (io), 46 PC6 (io), 47 PC7 (io), 48 PD0 (io), 49 PD1 (io), 50 PD2 (io), 51 PD3 (io), 52 NC, 53 NC, 54 NC, 55 NC, 56 NC, 57 NC, 58 NC, 59 NC, 60 NC, 61 NC, 62 NC, 63 NC, 64 NC

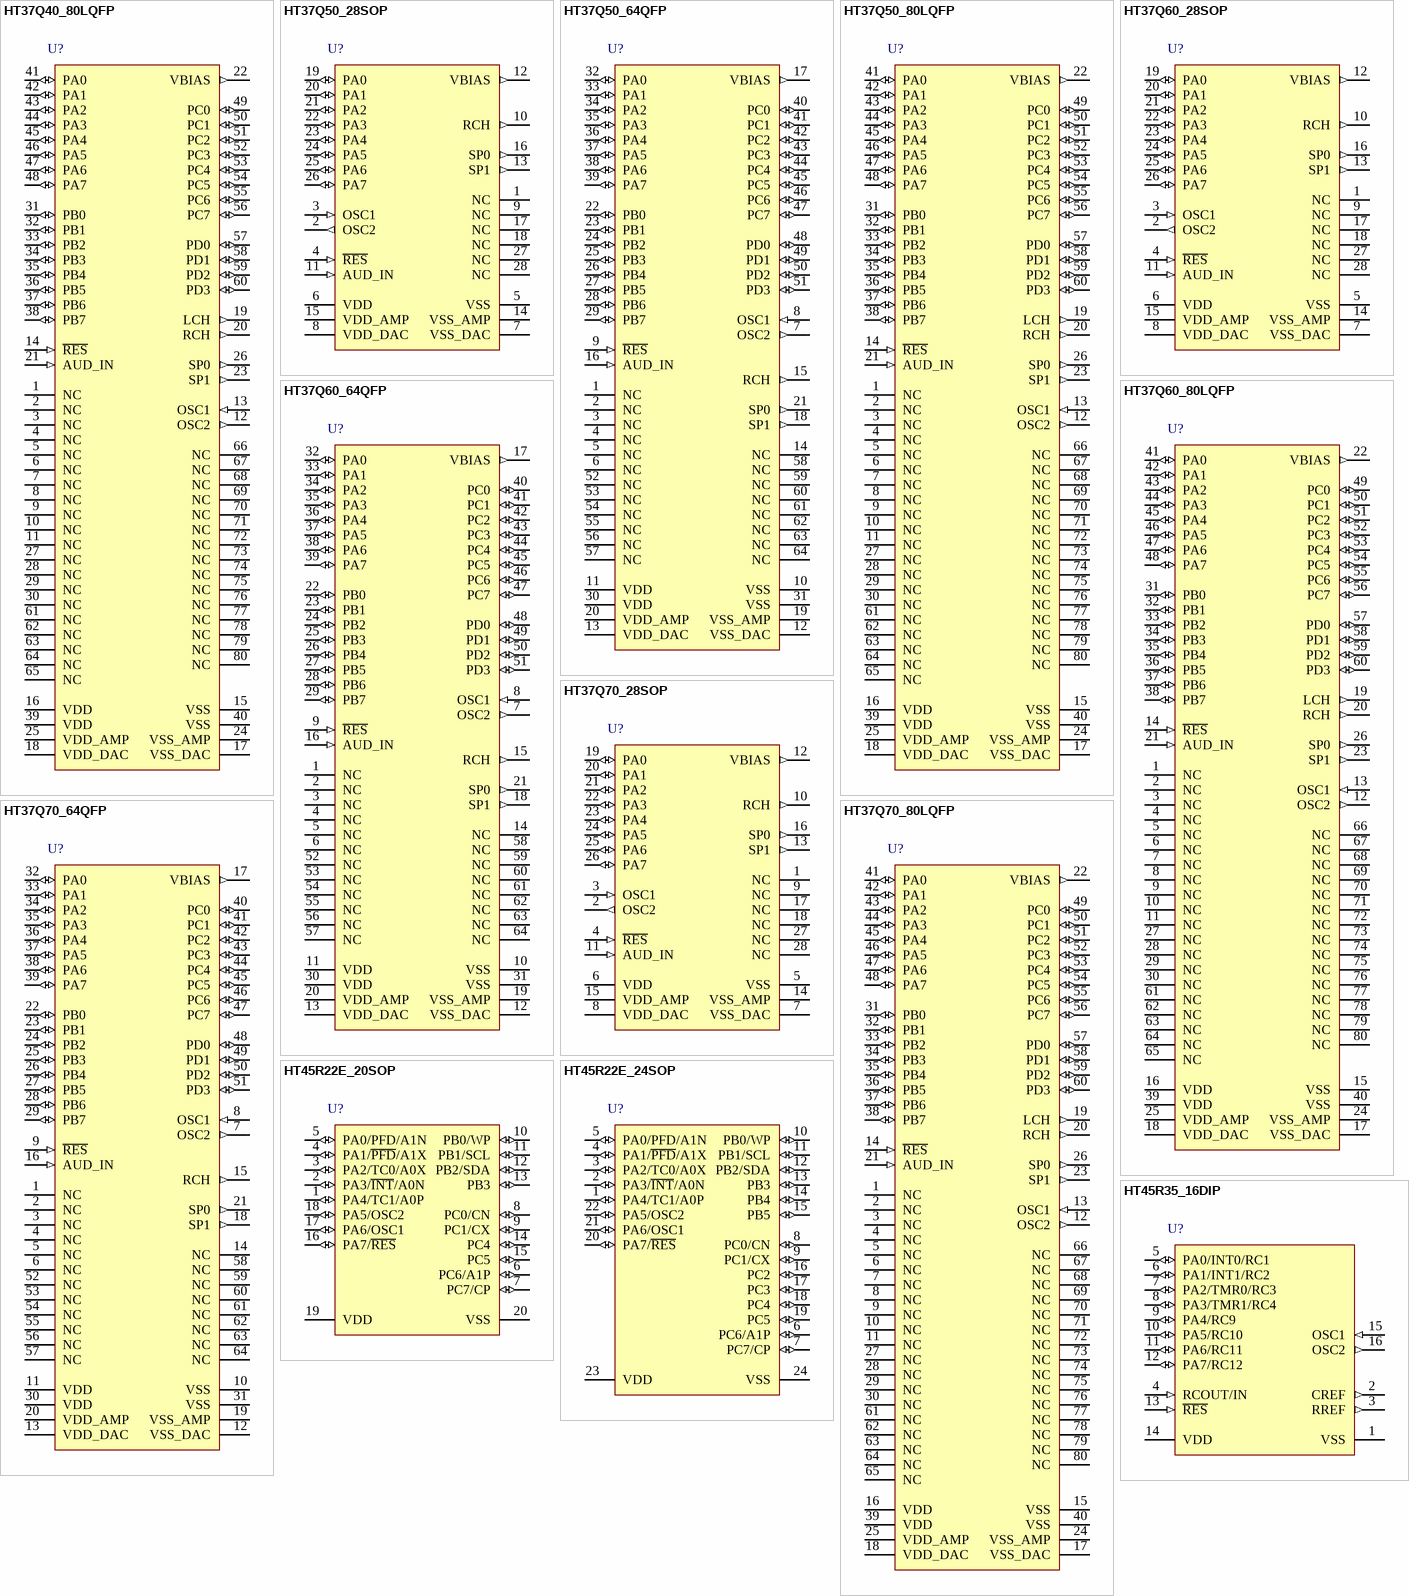
[diagram p2: symbols HT37Q40_80LQFP to HT45R35_16DIP]

## HT37Q40_80LQFP
designator U?
Voice & Music MCU, Enhanced Music MCU (4 Polyphony), 2.4V-5.5V, 2Kx15 Program Memory, 80x8 Data Memory, 12 I/O, 2 x 8-bit Timer, 1 x 16-bit Timer, 16-bitx1 D/A, 80-pin LQFP; I/O: 12; DatasheetVersion: rev1.0, Feb-2009; PackageVersion: 25/05/2010; PackageReference: 80LQFP; PackageDescription: 80-Pin Low Profile Quad Flat Pack, 10 x 10 mm Body, 0.4 mm Pitch; Series: Enhanced Music MCU (4 Polyphony); Operating Voltage: 2.4V-5.5V; Program Memory: 2Kx15; Data Memory: 80x8; ComponentLink1Description: Manufacturer URL; ComponentLink1URL: http://www.holtek.com/; ComponentLink2Description: Datasheet; ComponentLink2URL: http://www.holtek.com.cn/pdf/consumer/37qxxv100.pdf; ComponentLink3Description: Package Specification; ComponentLink3URL: http://www.holtek.com/english/literature/package.pdf
footprint 80LQFP_N (Thin QFP, 80-Leads, Body 10x10mm, Pitch 0.4mm, IPC Medium Density)
footprint 80LQFP_L (Thin QFP, 80-Leads, Body 10x10mm, Pitch 0.4mm, IPC High Density)
footprint 80LQFP_M (Thin QFP, 80-Leads, Body 10x10mm, Pitch 0.4mm, IPC Low Density)
pins: 1 NC, 2 NC, 3 NC, 4 NC, 5 NC, 6 NC, 7 NC, 8 NC, 9 NC, 10 NC, 11 NC, 12 OSC2 (out), 13 OSC1 (in), 14 ~{RES} (in), 15 VSS (power), 16 VDD (power), 17 VSS_DAC (power), 18 VDD_DAC (power), 19 LCH (out), 20 RCH (out), 21 AUD_IN (in), 22 VBIAS (out), 23 SP1 (out), 24 VSS_AMP (power), 25 VDD_AMP (power), 26 SP0 (out), 27 NC, 28 NC, 29 NC, 30 NC, 31 PB0 (io), 32 PB1 (io), 33 PB2 (io), 34 PB3 (io), 35 PB4 (io), 36 PB5 (io), 37 PB6 (io), 38 PB7 (io), 39 VDD (power), 40 VSS (power), 41 PA0 (io), 42 PA1 (io), 43 PA2 (io), 44 PA3 (io), 45 PA4 (io), 46 PA5 (io), 47 PA6 (io), 48 PA7 (io), 49 PC0 (io), 50 PC1 (io), 51 PC2 (io), 52 PC3 (io), 53 PC4 (io), 54 PC5 (io), 55 PC6 (io), 56 PC7 (io), 57 PD0 (io), 58 PD1 (io), 59 PD2 (io), 60 PD3 (io), 61 NC, 62 NC, 63 NC, 64 NC, 65 NC, 66 NC, 67 NC, 68 NC, 69 NC, 70 NC, 71 NC, 72 NC, 73 NC, 74 NC, 75 NC, 76 NC, 77 NC, 78 NC, 79 NC, 80 NC

## HT37Q50_28SOP
designator U?
Voice & Music MCU, Enhanced Music MCU (4 Polyphony), 2.4V-5.5V, 2Kx15 Program Memory, 80x8 Data Memory, 12 I/O, 2 x 8-bit Timer, 1 x 16-bit Timer, 16-bitx1 D/A, 28-pin SOP; I/O: 12; DatasheetVersion: rev1.0, Feb-2009; PackageVersion: 25/05/2010; PackageReference: 28SOP; PackageDescription: 28-Pin Small Outline Package, 300mil Wide, 1.27 mm Pitch; Series: Enhanced Music MCU (4 Polyphony); Operating Voltage: 2.4V-5.5V; Program Memory: 2Kx15; Data Memory: 80x8; Code_JEDEC: MS-013; ComponentLink1Description: Manufacturer URL; ComponentLink1URL: http://www.holtek.com/; ComponentLink2Description: Datasheet; ComponentLink2URL: http://www.holtek.com.cn/pdf/consumer/37qxxv100.pdf; ComponentLink3Description: Package Specification; ComponentLink3URL: http://www.holtek.com/english/literature/package.pdf
footprint 28SOP_N (SOIC, 28-Leads, Body 17.9x7.1mm, Pitch 1.27mm, IPC Medium Density)
footprint 28SOP_L (SOIC, 28-Leads, Body 17.9x7.1mm, Pitch 1.27mm, IPC High Density)
footprint 28SOP_M (SOIC, 28-Leads, Body 17.9x7.1mm, Pitch 1.27mm, IPC Low Density)
pins: 1 NC, 2 OSC2 (out), 3 OSC1 (in), 4 ~{RES} (in), 5 VSS (power), 6 VDD (power), 7 VSS_DAC (power), 8 VDD_DAC (power), 9 NC, 10 RCH (out), 11 AUD_IN (in), 12 VBIAS (out), 13 SP1 (out), 14 VSS_AMP (power), 15 VDD_AMP (power), 16 SP0 (out), 17 NC, 18 NC, 19 PA0 (io), 20 PA1 (io), 21 PA2 (io), 22 PA3 (io), 23 PA4 (io), 24 PA5 (io), 25 PA6 (io), 26 PA7 (io), 27 NC, 28 NC

## HT37Q50_64QFP
designator U?
Voice & Music MCU, Enhanced Music MCU (4 Polyphony), 2.4V-5.5V, 2Kx15 Program Memory, 80x8 Data Memory, 12 I/O, 2 x 8-bit Timer, 1 x 16-bit Timer, 16-bitx1 D/A, 64-pin QFP; I/O: 12; DatasheetVersion: rev1.0, Feb-2009; PackageVersion: 25/05/2010; PackageReference: 64QFP; PackageDescription: 64-Pin Quad Flat Pack, 20 x 14 mm Body, 1 mm Pitch; Series: Enhanced Music MCU (4 Polyphony); Operating Voltage: 2.4V-5.5V; Program Memory: 2Kx15; Data Memory: 80x8; ComponentLink1Description: Manufacturer URL; ComponentLink1URL: http://www.holtek.com/; ComponentLink2Description: Datasheet; ComponentLink2URL: http://www.holtek.com.cn/pdf/consumer/37qxxv100.pdf; ComponentLink3Description: Package Specification; ComponentLink3URL: http://www.holtek.com/english/literature/package.pdf
footprint 64QFP_N (QFP, 64-Leads, Body 20x14mm, Pitch 1mm, IPC Medium Density)
footprint 64QFP_L (QFP, 64-Leads, Body 20x14mm, Pitch 1mm, IPC High Density)
footprint 64QFP_M (QFP, 64-Leads, Body 20x14mm, Pitch 1mm, IPC Low Density)
pins: 1 NC, 2 NC, 3 NC, 4 NC, 5 NC, 6 NC, 7 OSC2 (out), 8 OSC1 (in), 9 ~{RES} (in), 10 VSS (power), 11 VDD (power), 12 VSS_DAC (power), 13 VDD_DAC (power), 14 NC, 15 RCH (out), 16 AUD_IN (in), 17 VBIAS (out), 18 SP1 (out), 19 VSS_AMP (power), 20 VDD_AMP (power), 21 SP0 (out), 22 PB0 (io), 23 PB1 (io), 24 PB2 (io), 25 PB3 (io), 26 PB4 (io), 27 PB5 (io), 28 PB6 (io), 29 PB7 (io), 30 VDD (power), 31 VSS (power), 32 PA0 (io), 33 PA1 (io), 34 PA2 (io), 35 PA3 (io), 36 PA4 (io), 37 PA5 (io), 38 PA6 (io), 39 PA7 (io), 40 PC0 (io), 41 PC1 (io), 42 PC2 (io), 43 PC3 (io), 44 PC4 (io), 45 PC5 (io), 46 PC6 (io), 47 PC7 (io), 48 PD0 (io), 49 PD1 (io), 50 PD2 (io), 51 PD3 (io), 52 NC, 53 NC, 54 NC, 55 NC, 56 NC, 57 NC, 58 NC, 59 NC, 60 NC, 61 NC, 62 NC, 63 NC, 64 NC

## HT37Q50_80LQFP
designator U?
Voice & Music MCU, Enhanced Music MCU (4 Polyphony), 2.4V-5.5V, 2Kx15 Program Memory, 80x8 Data Memory, 12 I/O, 2 x 8-bit Timer, 1 x 16-bit Timer, 16-bitx1 D/A, 80-pin LQFP; I/O: 12; DatasheetVersion: rev1.0, Feb-2009; PackageVersion: 25/05/2010; PackageReference: 80LQFP; PackageDescription: 80-Pin Low Profile Quad Flat Pack, 10 x 10 mm Body, 0.4 mm Pitch; Series: Enhanced Music MCU (4 Polyphony); Operating Voltage: 2.4V-5.5V; Program Memory: 2Kx15; Data Memory: 80x8; ComponentLink1Description: Manufacturer URL; ComponentLink1URL: http://www.holtek.com/; ComponentLink2Description: Datasheet; ComponentLink2URL: http://www.holtek.com.cn/pdf/consumer/37qxxv100.pdf; ComponentLink3Description: Package Specification; ComponentLink3URL: http://www.holtek.com/english/literature/package.pdf
footprint 80LQFP_N (Thin QFP, 80-Leads, Body 10x10mm, Pitch 0.4mm, IPC Medium Density)
footprint 80LQFP_L (Thin QFP, 80-Leads, Body 10x10mm, Pitch 0.4mm, IPC High Density)
footprint 80LQFP_M (Thin QFP, 80-Leads, Body 10x10mm, Pitch 0.4mm, IPC Low Density)
pins: 1 NC, 2 NC, 3 NC, 4 NC, 5 NC, 6 NC, 7 NC, 8 NC, 9 NC, 10 NC, 11 NC, 12 OSC2 (out), 13 OSC1 (in), 14 ~{RES} (in), 15 VSS (power), 16 VDD (power), 17 VSS_DAC (power), 18 VDD_DAC (power), 19 LCH (out), 20 RCH (out), 21 AUD_IN (in), 22 VBIAS (out), 23 SP1 (out), 24 VSS_AMP (power), 25 VDD_AMP (power), 26 SP0 (out), 27 NC, 28 NC, 29 NC, 30 NC, 31 PB0 (io), 32 PB1 (io), 33 PB2 (io), 34 PB3 (io), 35 PB4 (io), 36 PB5 (io), 37 PB6 (io), 38 PB7 (io), 39 VDD (power), 40 VSS (power), 41 PA0 (io), 42 PA1 (io), 43 PA2 (io), 44 PA3 (io), 45 PA4 (io), 46 PA5 (io), 47 PA6 (io), 48 PA7 (io), 49 PC0 (io), 50 PC1 (io), 51 PC2 (io), 52 PC3 (io), 53 PC4 (io), 54 PC5 (io), 55 PC6 (io), 56 PC7 (io), 57 PD0 (io), 58 PD1 (io), 59 PD2 (io), 60 PD3 (io), 61 NC, 62 NC, 63 NC, 64 NC, 65 NC, 66 NC, 67 NC, 68 NC, 69 NC, 70 NC, 71 NC, 72 NC, 73 NC, 74 NC, 75 NC, 76 NC, 77 NC, 78 NC, 79 NC, 80 NC

## HT37Q60_28SOP
designator U?
Voice & Music MCU, Enhanced Music MCU (4 Polyphony), 2.4V-5.5V, 2Kx15 Program Memory, 80x8 Data Memory, 12 I/O, 2 x 8-bit Timer, 1 x 16-bit Timer, 16-bitx1 D/A, 28-pin SOP; I/O: 12; DatasheetVersion: rev1.0, Feb-2009; PackageVersion: 25/05/2010; PackageReference: 28SOP; PackageDescription: 28-Pin Small Outline Package, 300mil Wide, 1.27 mm Pitch; Series: Enhanced Music MCU (4 Polyphony); Operating Voltage: 2.4V-5.5V; Program Memory: 2Kx15; Data Memory: 80x8; Code_JEDEC: MS-013; ComponentLink1Description: Manufacturer URL; ComponentLink1URL: http://www.holtek.com/; ComponentLink2Description: Datasheet; ComponentLink2URL: http://www.holtek.com.cn/pdf/consumer/37qxxv100.pdf; ComponentLink3Description: Package Specification; ComponentLink3URL: http://www.holtek.com/english/literature/package.pdf
footprint 28SOP_N (SOIC, 28-Leads, Body 17.9x7.1mm, Pitch 1.27mm, IPC Medium Density)
footprint 28SOP_L (SOIC, 28-Leads, Body 17.9x7.1mm, Pitch 1.27mm, IPC High Density)
footprint 28SOP_M (SOIC, 28-Leads, Body 17.9x7.1mm, Pitch 1.27mm, IPC Low Density)
pins: 1 NC, 2 OSC2 (out), 3 OSC1 (in), 4 ~{RES} (in), 5 VSS (power), 6 VDD (power), 7 VSS_DAC (power), 8 VDD_DAC (power), 9 NC, 10 RCH (out), 11 AUD_IN (in), 12 VBIAS (out), 13 SP1 (out), 14 VSS_AMP (power), 15 VDD_AMP (power), 16 SP0 (out), 17 NC, 18 NC, 19 PA0 (io), 20 PA1 (io), 21 PA2 (io), 22 PA3 (io), 23 PA4 (io), 24 PA5 (io), 25 PA6 (io), 26 PA7 (io), 27 NC, 28 NC

## HT37Q60_64QFP
designator U?
Voice & Music MCU, Enhanced Music MCU (4 Polyphony), 2.4V-5.5V, 2Kx15 Program Memory, 80x8 Data Memory, 12 I/O, 2 x 8-bit Timer, 1 x 16-bit Timer, 16-bitx1 D/A, 64-pin QFP; I/O: 12; DatasheetVersion: rev1.0, Feb-2009; PackageVersion: 25/05/2010; PackageReference: 64QFP; PackageDescription: 64-Pin Quad Flat Pack, 20 x 14 mm Body, 1 mm Pitch; Series: Enhanced Music MCU (4 Polyphony); Operating Voltage: 2.4V-5.5V; Program Memory: 2Kx15; Data Memory: 80x8; ComponentLink1Description: Manufacturer URL; ComponentLink1URL: http://www.holtek.com/; ComponentLink2Description: Datasheet; ComponentLink2URL: http://www.holtek.com.cn/pdf/consumer/37qxxv100.pdf; ComponentLink3Description: Package Specification; ComponentLink3URL: http://www.holtek.com/english/literature/package.pdf
footprint 64QFP_N (QFP, 64-Leads, Body 20x14mm, Pitch 1mm, IPC Medium Density)
footprint 64QFP_L (QFP, 64-Leads, Body 20x14mm, Pitch 1mm, IPC High Density)
footprint 64QFP_M (QFP, 64-Leads, Body 20x14mm, Pitch 1mm, IPC Low Density)
pins: 1 NC, 2 NC, 3 NC, 4 NC, 5 NC, 6 NC, 7 OSC2 (out), 8 OSC1 (in), 9 ~{RES} (in), 10 VSS (power), 11 VDD (power), 12 VSS_DAC (power), 13 VDD_DAC (power), 14 NC, 15 RCH (out), 16 AUD_IN (in), 17 VBIAS (out), 18 SP1 (out), 19 VSS_AMP (power), 20 VDD_AMP (power), 21 SP0 (out), 22 PB0 (io), 23 PB1 (io), 24 PB2 (io), 25 PB3 (io), 26 PB4 (io), 27 PB5 (io), 28 PB6 (io), 29 PB7 (io), 30 VDD (power), 31 VSS (power), 32 PA0 (io), 33 PA1 (io), 34 PA2 (io), 35 PA3 (io), 36 PA4 (io), 37 PA5 (io), 38 PA6 (io), 39 PA7 (io), 40 PC0 (io), 41 PC1 (io), 42 PC2 (io), 43 PC3 (io), 44 PC4 (io), 45 PC5 (io), 46 PC6 (io), 47 PC7 (io), 48 PD0 (io), 49 PD1 (io), 50 PD2 (io), 51 PD3 (io), 52 NC, 53 NC, 54 NC, 55 NC, 56 NC, 57 NC, 58 NC, 59 NC, 60 NC, 61 NC, 62 NC, 63 NC, 64 NC

## HT37Q60_80LQFP
designator U?
Voice & Music MCU, Enhanced Music MCU (4 Polyphony), 2.4V-5.5V, 2Kx15 Program Memory, 80x8 Data Memory, 12 I/O, 2 x 8-bit Timer, 1 x 16-bit Timer, 16-bitx1 D/A, 80-pin LQFP; I/O: 12; DatasheetVersion: rev1.0, Feb-2009; PackageVersion: 25/05/2010; PackageReference: 80LQFP; PackageDescription: 80-Pin Low Profile Quad Flat Pack, 10 x 10 mm Body, 0.4 mm Pitch; Series: Enhanced Music MCU (4 Polyphony); Operating Voltage: 2.4V-5.5V; Program Memory: 2Kx15; Data Memory: 80x8; ComponentLink1Description: Manufacturer URL; ComponentLink1URL: http://www.holtek.com/; ComponentLink2Description: Datasheet; ComponentLink2URL: http://www.holtek.com.cn/pdf/consumer/37qxxv100.pdf; ComponentLink3Description: Package Specification; ComponentLink3URL: http://www.holtek.com/english/literature/package.pdf
footprint 80LQFP_N (Thin QFP, 80-Leads, Body 10x10mm, Pitch 0.4mm, IPC Medium Density)
footprint 80LQFP_L (Thin QFP, 80-Leads, Body 10x10mm, Pitch 0.4mm, IPC High Density)
footprint 80LQFP_M (Thin QFP, 80-Leads, Body 10x10mm, Pitch 0.4mm, IPC Low Density)
pins: 1 NC, 2 NC, 3 NC, 4 NC, 5 NC, 6 NC, 7 NC, 8 NC, 9 NC, 10 NC, 11 NC, 12 OSC2 (out), 13 OSC1 (in), 14 ~{RES} (in), 15 VSS (power), 16 VDD (power), 17 VSS_DAC (power), 18 VDD_DAC (power), 19 LCH (out), 20 RCH (out), 21 AUD_IN (in), 22 VBIAS (out), 23 SP1 (out), 24 VSS_AMP (power), 25 VDD_AMP (power), 26 SP0 (out), 27 NC, 28 NC, 29 NC, 30 NC, 31 PB0 (io), 32 PB1 (io), 33 PB2 (io), 34 PB3 (io), 35 PB4 (io), 36 PB5 (io), 37 PB6 (io), 38 PB7 (io), 39 VDD (power), 40 VSS (power), 41 PA0 (io), 42 PA1 (io), 43 PA2 (io), 44 PA3 (io), 45 PA4 (io), 46 PA5 (io), 47 PA6 (io), 48 PA7 (io), 49 PC0 (io), 50 PC1 (io), 51 PC2 (io), 52 PC3 (io), 53 PC4 (io), 54 PC5 (io), 55 PC6 (io), 56 PC7 (io), 57 PD0 (io), 58 PD1 (io), 59 PD2 (io), 60 PD3 (io), 61 NC, 62 NC, 63 NC, 64 NC, 65 NC, 66 NC, 67 NC, 68 NC, 69 NC, 70 NC, 71 NC, 72 NC, 73 NC, 74 NC, 75 NC, 76 NC, 77 NC, 78 NC, 79 NC, 80 NC